# EAGLE library part 4-DIGIT (library FansElectronics-7Segmen)
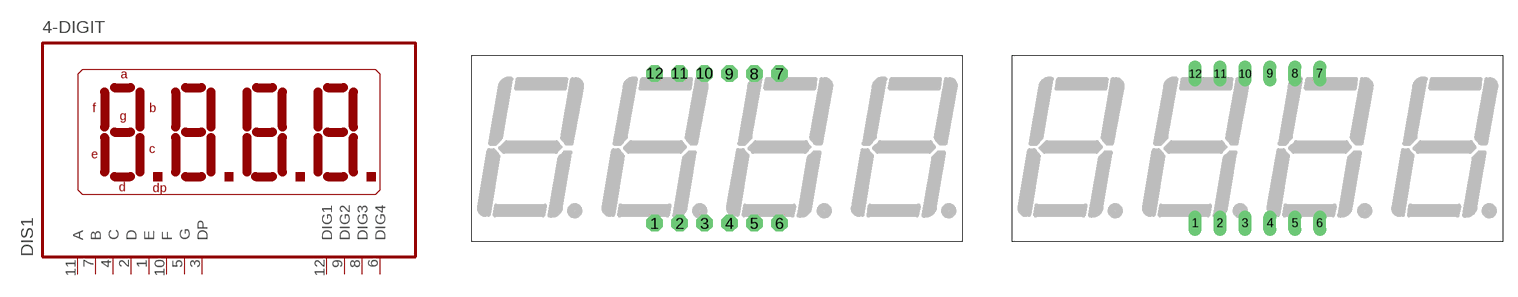
[diagram p1: symbol with the pads of 4-DIG-O; footprints 4-DIG-O, 4-DIG]

Designator prefix DIS1

## 4-DIGIT-ANODE-O, 4-DIGIT-CATODE-O  [4-DIG-O]
1  E  in
2  D  in
3  DP  in
4  C  in
5  G  in
6  DIG4  in
7  B  in
8  DIG3  in
9  DIG2  in
10  F  in
11  A  in
12  DIG1  in

## 4-DIGIT-ANODE, 4-DIGIT-CATODE  [4-DIG]
Pads as for 4-DIG-O

## Footprint 4-DIG-O (pad centres in mm)
drill 0.8 pad 1.676 octagon: 1 -6.35,-7.62; 2 -3.81,-7.62; 3 -1.27,-7.62; 4 1.27,-7.62; 5 3.81,-7.62; 6 6.35,-7.62; 7 6.35,7.62; 8 3.81,7.62; 9 1.27,7.62; 10 -1.27,7.62; 11 -3.81,7.62; 12 -6.35,7.62

## Footprint 4-DIG (pad centres in mm)
drill 0.8 long: 1 -6.35,-7.62; 2 -3.81,-7.62; 3 -1.27,-7.62; 4 1.27,-7.62; 5 3.81,-7.62; 6 6.35,-7.62; 7 6.35,7.62; 8 3.81,7.62; 9 1.27,7.62; 10 -1.27,7.62; 11 -3.81,7.62; 12 -6.35,7.62